# Altium schematic symbol library ADS7038IRTER.SchLib: 1 symbol
Pins are listed as number, name and electrical type; pins without a type are passive.

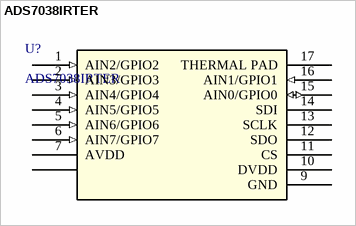
[diagram p0: symbol ADS7038IRTER]

## ADS7038IRTER
designator U?
No Description Available; Mfr_Name: Texas Instruments; Copyright: Copyright (C) 2022 Ultra Librarian. All rights reserved.; Manufacturer_Part_Number: ADS7038IRTER; RefDes: RefDes; Type: DEV
footprint QFN_38IRTET_TEX
pins: 1 AIN2/GPIO2 (in), 2 AIN3/GPIO3 (in), 3 AIN4/GPIO4 (in), 4 AIN5/GPIO5 (in), 5 AIN6/GPIO6 (in), 6 AIN7/GPIO7 (in), 7 AVDD (power), 9 GND, 10 DVDD (power), 11 CS, 12 SDO, 13 SCLK, 14 SDI, 15 AIN0/GPIO0 (io), 16 AIN1/GPIO1 (in), 17 THERMAL PAD, ?1